# Altium schematic symbol library opa170lmr61428.SchLib: 2 symbols
Pins are listed as number, name and electrical type; pins without a type are passive.

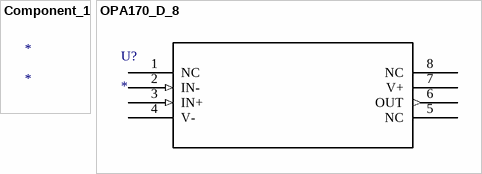
[diagram p0: symbols Component_1 to OPA170_D_8]

## Component_1
designator *

## OPA170_D_8
designator U?
Imported; Manufacturer: Texas Instruments; GENERIC_PART_NUMBER: OPA170; Manufacturer_Part_Number: opa170_d_8; INDUSTRY_STD_PKG_TYPE: SOIC; FAMILY_NAME: LOW POWER; PIN_COUNT: 8; PACKAGE_DESIGNATOR: D; Datasheet URL: http://www.ti.com/lit/gpn/OPA170; Vendor: Texas Instruments; RefDes: RefDes; Type: DEV; Value: Value
footprint D8
pins: 1 NC, 2 IN- (in), 3 IN+ (in), 4 V- (power), 5 NC, 6 OUT (out), 7 V+ (power), 8 NC